# EAGLE library part SSQ-106-03-G-S (library SSQ-106-03-G-S)
6 Position, .100" Tiger Buy™ Socket Strip, Square Tail, Single Row Source: Datasheet <http://suddendocs.samtec.com/prints/ssq-1xx-xx-xxx-x-xx-xxx-xx-x-mkt.pdf>
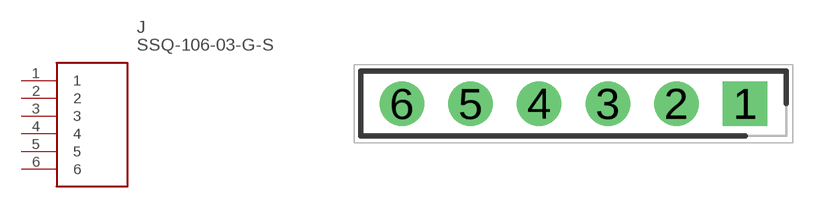
[diagram p0: symbol with the pads of RHDR6W64P254_1X6_1575X241X851P; footprint RHDR6W64P254_1X6_1575X241X851P]

Designator prefix J

## SSQ-106-03-G-S (Description: 6 Position, .100&quot; Tiger Buy&trade; Socket Strip, Square Tail, Single Row; Height: 8.51mm; Manufacturer_Name: SAMTEC; Manufacturer_Part_Number: SSQ-106-03-G-S; Mouser_Part_Number: 200-SSQ10603GS; Mouser_Price-Stock: https://www.mouser.co.uk/ProductDetail/Samtec/SSQ-106-03-G-S?qs=rU5fayqh%252BE1Zh2ics08F5Q%3D%3D)  [RHDR6W64P254_1X6_1575X241X851P]
1  1
2  2
3  3
4  4
5  5
6  6

## Footprint RHDR6W64P254_1X6_1575X241X851P (pad centres in mm)
SSQ-106-03-G-S
drill 1.1 pad 1.65 square: 1 0,0
drill 1.1 pad 1.65: 2 -2.54,0; 3 -5.08,0; 4 -7.62,0; 5 -10.16,0; 6 -12.7,0